# Altium footprint library VLMx1501.PcbLib: 1 footprints
Each footprint in its own frame and in the unit in brackets; x right, y up, seen from the top. Pads: shape width x height; smd on the part's side, far side on the other; paste and mask are expansions set on the pad; w line width, h text height; cw(c..) or ccw(c..) is an arc to the next point about the centre after c.
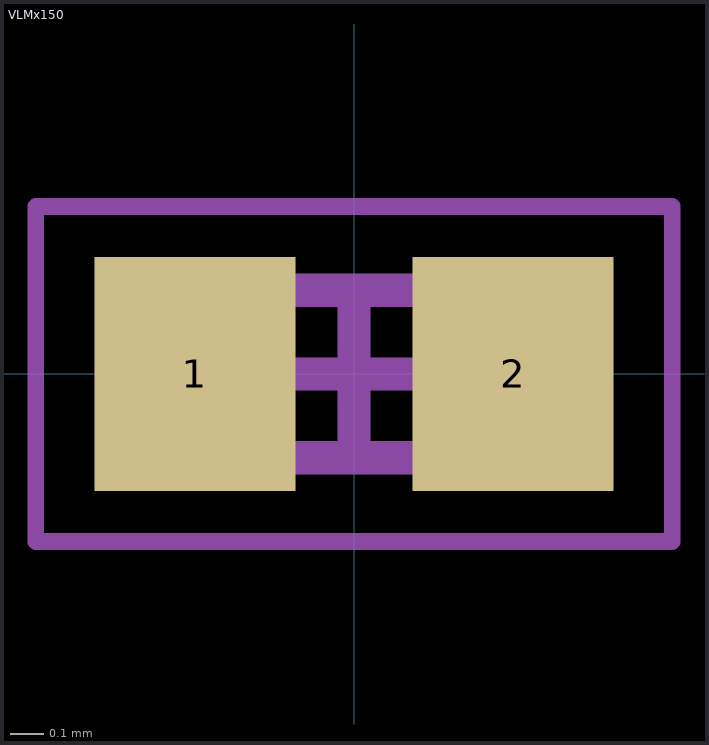
[diagram p0: the footprint, top view; thin cyan lines are the x and y axes]

## VLMx150 [mm] "Chip Diode, 2-Leads, Body 1,00x0,50mm, IPC Medium Density"
height 0.35
pads (2):
  rect 0.6x0.7 smd: 1(-0.475,0) 2(0.475,0)
Mechanical 7:
  text ".Comment" at -0.381,0.635 h1.2
Mechanical 9 (Mech9):
  text ".Description" at 0.762,0.635 h1.2
Mechanical 13:
  lines w0.1: -0.5,-0.25 -0.5,0.25 0.5,0.25 0.5,-0.25 -0.5,-0.25
Mechanical 15:
  lines w0.05: -0.95,-0.5 -0.95,0.5 0.95,0.5 0.95,-0.5 -0.95,-0.5
  lines w0.1: -0.25,0 0.25,0 ; 0,-0.25 0,0.25
3D body: height 0.35, standoff 0, extent -0.17,-0.25 0.17,0.25
3D body: height 0.35, standoff 0, extent -0.5,-0.25 -0.17,0.25
3D body: height 0.35, standoff 0, extent 0.17,-0.25 0.5,0.25